# EAGLE library part LM5574 (library m_misc)
LM5574 SIMPLE SWITCHER 75V, 0.5A Step-Down Switching Regulator
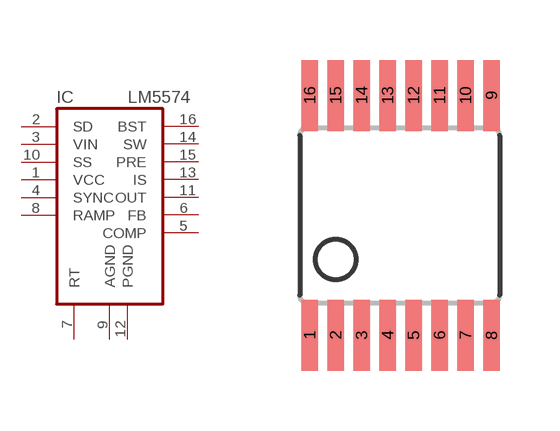
[diagram p9: symbol with the pads of TSSOP16; footprint TSSOP16]

Designator prefix IC

## LM5574  [TSSOP16]
1  VCC
2  SD
3  VIN
4  SYNC
5  COMP
6  FB
7  RT
8  RAMP
9  AGND
10  SS
11  OUT
12  PGND
13  IS
14  SW
15  PRE
16  BST

## Footprint TSSOP16 (pad centres in mm)
smd 0.42 x 1.78: 1 -1.95,-3; 2 -1.3,-3; 3 -0.65,-3; 4 0,-3; 5 0.65,-3; 6 1.3,-3; 7 1.95,-3; 8 2.6,-3; 9 2.6,3; 10 1.95,3; 11 1.3,3; 12 0.65,3; 13 0,3; 14 -0.65,3; 15 -1.3,3; 16 -1.95,3